# EAGLE library part RELAY_2XCHANGE_OVER (library be_relay)
edited: Mario Blunk / Blunk electronic
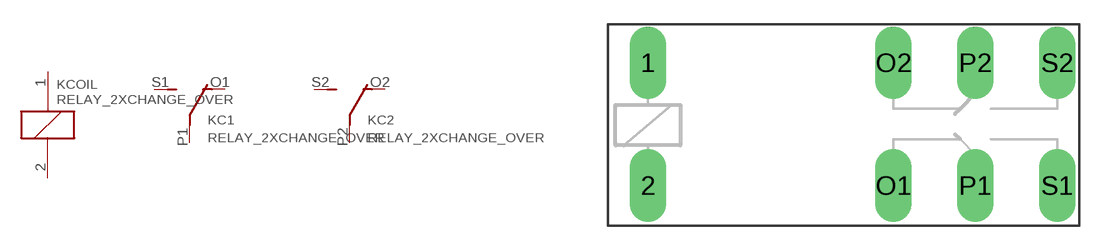
[diagram p1: symbol with the pads of T_40.52; footprint T_40.52]

Designator prefix K; gates C1=CHANGE_OVER C2=CHANGE_OVER COIL=COIL

## RELAY_2XCHANGE_OVER_T_40.52 (BOM: YES; COMMISSIONED: 2016-11-15; PART_CODE_BEL: K_PAC_T_40.52_VAL_)  [T_40.52]
1  COIL:+  pas
2  COIL:-  pas
O1  C1:O  pas
O2  C2:O  pas
P1  C1:P  pas
P2  C2:P  pas
S1  C1:S  pas
S2  C2:S  pas

## Footprint T_40.52 (pad centres in mm)
edited: Mario Blunk / Blunk electronic date: 2016-11-15
drill 1.5 long: 1 -15.31,3.81; 2 -15.31,-3.81; O1 -0.07,-3.81; O2 -0.07,3.81; P1 5.01,-3.81; P2 5.01,3.81; S1 10.09,-3.81; S2 10.09,3.81